# Altium footprint library NDK-8.5x4mm XTAL.PcbLib: 1 footprints
Each footprint in its own frame and in the unit in brackets; x right, y up, seen from the top. Pads: shape width x height; smd on the part's side, far side on the other; paste and mask are expansions set on the pad; w line width, h text height; cw(c..) or ccw(c..) is an arc to the next point about the centre after c.
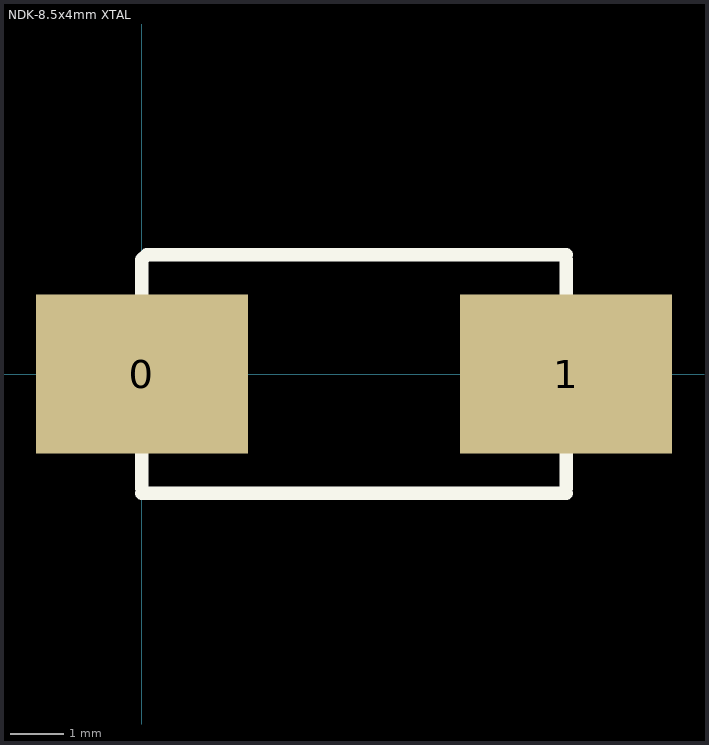
[diagram p0: the footprint, top view; thin cyan lines are the x and y axes]

## NDK-8.5x4mm XTAL [mm]
pads (2):
  rect 4x3 smd: 0(0,0) 1(8,0)
Top Overlay:
  lines w0.254: 0,-2.25 8,-2.25 ; 0,-2.159 0,2.159 0.091,2.25 8,2.25 ; 8.001,-2.159 8.001,2.159